# EAGLE library part XC3SD3400ACS484 (library xilinx_spartan3_virtex4_and_5)
Xilinx FPGA
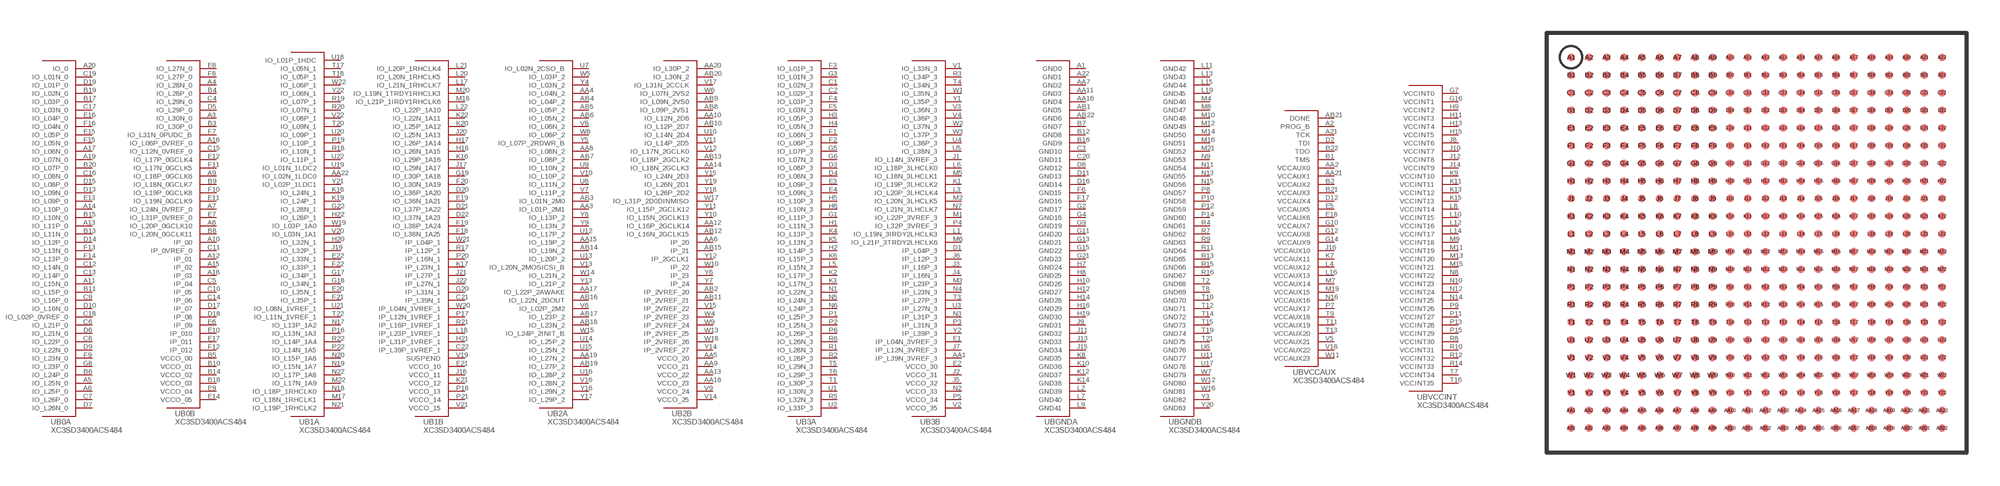
[diagram p41: symbol with the pads of CS484; footprint CS484]

Designator prefix U; gates B0A=XC3SD3400ACS484_0A B0B=XC3SD3400ACS484_0B B1A=XC3SD3400ACS484_1A B1B=XC3SD3400ACS484_1B B2A=XC3SD3400ACS484_2A B2B=XC3SD3400ACS484_2B B3A=XC3SD3400ACS484_3A B3B=XC3SD3400ACS484_3B BGNDA=XC3SD3400ACS484_GNDA BGNDB=XC3SD3400ACS484_GNDB BVCCAUX=XC3SD3400ACS484_VCCAUX BVCCINT=XC3SD3400ACS484_VCCINT

## XC3SD3400ACS484  [CS484]
A1  BGNDA:GND0  pas
A2  BVCCAUX:PROG_B
A3  B0B:IO_L30N_0
A4  B0B:IO_L28N_0
A5  B0A:IO_L25N_0
A6  B0A:IO_L25P_0
A7  B0B:IO_L24N_0VREF_0
A8  B0B:IO_L20P_0GCLK10
A9  B0B:IO_L18P_0GCLK6
A10  B0B:IP_00
A11  B0A:IO_L15N_0
A12  B0B:IP_01
A13  B0A:IO_L11P_0
A14  B0A:IO_L10P_0
A15  B0B:IP_02
A16  B0B:IO_L06P_0VREF_0
A17  B0A:IO_L06N_0
A18  B0B:IP_03
A19  B0A:IO_L07N_0
A20  B0A:IO_0
A21  BVCCAUX:TCK
A22  BGNDA:GND1  pas
AA1  B3B:IP_L39N_3VREF_3
AA2  BVCCAUX:VCCAUX0  pas
AA3  B2A:IO_L01P_2M1
AA4  B2A:IO_L04N_2
AA5  B2B:VCCO_20  pas
AA6  B2B:IP_20
AA7  BGNDA:GND2  pas
AA8  B2A:IO_L08N_2
AA9  B2B:VCCO_21  pas
AA10  B2B:IO_L12N_2D6
AA11  BGNDA:GND3  pas
AA12  B2B:IO_L16P_2GCLK14
AA13  B2B:VCCO_22  pas
AA14  B2B:IO_L18N_2GCLK3
AA15  B2A:IO_L19P_2
AA16  BGNDA:GND4  pas
AA17  B2A:IO_L22P_2AWAKE
AA18  B2B:VCCO_23  pas
AA19  B2A:IO_L27N_2
AA20  B2B:IO_L30P_2
AA21  BVCCAUX:VCCAUX1  pas
AA22  B1A:IO_L02N_1LDC0
AB1  BGNDA:GND5  pas
AB2  B2B:IP_2VREF_20
AB3  B2A:IO_L01N_2M0
AB4  B2A:IO_L04P_2
AB5  B2A:IO_L05P_2
AB6  B2A:IO_L05N_2
AB7  B2A:IO_L08P_2
AB8  B2B:IO_L09P_2VS1
AB9  B2B:IO_L09N_2VS0
AB10  B2B:IO_L12P_2D7
AB11  B2B:IP_2VREF_21
AB12  B2B:IO_L16N_2GCLK15
AB13  B2B:IO_L18P_2GCLK2
AB14  B2A:IO_L19N_2
AB15  B2B:IP_21
AB16  B2A:IO_L22N_2DOUT
AB17  B2A:IO_L23P_2
AB18  B2A:IO_L23N_2
AB19  B2A:IO_L27P_2
AB20  B2B:IO_L30N_2
AB21  BVCCAUX:DONE
AB22  BGNDA:GND6  pas
B1  BVCCAUX:TMS
B2  BVCCAUX:VCCAUX2  pas
B3  B0B:IO_L30P_0
B4  B0B:IO_L28P_0
B5  B0B:VCCO_00  pas
B6  B0A:IO_L24P_0
B7  BGNDA:GND7  pas
B8  B0B:IO_L20N_0GCLK11
B9  B0B:IO_L18N_0GCLK7
B10  B0B:VCCO_01  pas
B11  B0A:IO_L15P_0
B12  BGNDA:GND8  pas
B13  B0A:IO_L11N_0
B14  B0B:VCCO_02  pas
B15  B0A:IO_L10N_0
B16  BGNDA:GND9  pas
B17  B0A:IO_L03P_0
B18  B0B:VCCO_03  pas
B19  B0A:IO_L02N_0
B20  B0A:IO_L07P_0
B21  BVCCAUX:VCCAUX3  pas
B22  BVCCAUX:TDO
C1  B3A:IO_L02N_3
C2  B3A:IO_L02P_3
C3  BGNDA:GND10  pas
C4  B0B:IO_L29N_0
C5  B0B:IP_04
C6  B0A:IO_L21P_0
C7  B0A:IO_L26P_0
C8  B0A:IO_L22P_0
C9  B0A:IO_L16P_0
C10  B0B:IP_05
C11  B0B:IP_0VREF_0
C12  B0A:IO_L14N_0
C13  B0A:IO_L14P_0
C14  B0B:IP_06
C15  B0B:IO_L12N_0VREF_0
C16  B0A:IO_L08N_0
C17  B0A:IO_L03N_0
C18  B0A:IO_L02P_0VREF_0
C19  B0A:IO_L01N_0
C20  BGNDA:GND11  pas
C21  B1B:IP_L39N_1
C22  B1B:IP_L39P_1VREF_1
D1  B3B:IP_L04P_3
D2  BVCCAUX:TDI
D3  B3A:IO_L08P_3
D4  B3A:IO_L08N_3
D5  B0B:IO_L29P_0
D6  B0A:IO_L21N_0
D7  B0A:IO_L26N_0
D8  BGNDA:GND12  pas
D9  B0A:IO_L22N_0
D10  B0A:IO_L16N_0
D11  BGNDA:GND13  pas
D12  BVCCAUX:VCCAUX4  pas
D13  B0A:IO_L09N_0
D14  B0A:IO_L12P_0
D15  B0A:IO_L08P_0
D16  BGNDA:GND14  pas
D17  B0B:IP_07
D18  B0B:IP_08
D19  B0A:IO_L01P_0
D20  B1B:IO_L36P_1A20
D21  B1B:IO_L37P_1A22
D22  B1B:IO_L37N_1A23
E1  B3B:IP_L04N_3VREF_3
E2  B3B:VCCO_30  pas
E3  B3A:IO_L09P_3
E4  B3A:IO_L09N_3
E5  BVCCAUX:VCCAUX5  pas
E6  B0B:IP_09
E7  B0B:IO_L31P_0VREF_0
E8  B0B:IO_L27N_0
E9  B0B:VCCO_04  pas
E10  B0B:IP_010
E11  B0B:IO_L19N_0GCLK9
E12  B0B:IO_L17P_0GCLK4
E13  B0A:IO_L09P_0
E14  B0B:VCCO_05  pas
E15  B0A:IO_L05P_0
E16  B0A:IO_L04P_0
E17  B0B:IP_011
E18  BVCCAUX:VCCAUX6  pas
E19  B1B:IO_L36N_1A21
E20  B1A:IO_L35N_1
E21  B1B:VCCO_10  pas
E22  B1A:IO_L33N_1
F1  B3A:IO_L06N_3
F2  B3A:IO_L06P_3
F3  B3A:IO_L01P_3
F4  B3A:IO_L03P_3
F5  B3A:IO_L03N_3
F6  BGNDA:GND15  pas
F7  B0B:IO_L31N_0PUDC_B
F8  B0B:IO_L27P_0
F9  B0A:IO_L23N_0
F10  B0B:IO_L19P_0GCLK8
F11  B0B:IO_L17N_0GCLK5
F12  B0B:IP_012
F13  B0A:IO_L13N_0
F14  B0A:IO_L13P_0
F15  B0A:IO_L05N_0
F16  B0A:IO_L04N_0
F17  BGNDA:GND16  pas
F18  B1B:IO_L38N_1A25
F19  B1B:IO_L38P_1A24
F20  B1B:IO_L30N_1A19
F21  B1A:IO_L35P_1
F22  B1A:IO_L33P_1
G1  B3A:IO_L11P_3
G2  BGNDA:GND17  pas
G3  B3A:IO_L01N_3
G4  BGNDA:GND18  pas
G5  B3A:IO_L07P_3
G6  B3A:IO_L07N_3
G7  BVCCINT:VCCINT0  pas
G8  B0A:IO_L23P_0
G9  BGNDA:GND19  pas
G10  BVCCAUX:VCCAUX7  pas
G11  BGNDA:GND20  pas
G12  BVCCAUX:VCCAUX8  pas
G13  BGNDA:GND21  pas
G14  BVCCAUX:VCCAUX9  pas
G15  BGNDA:GND22  pas
G16  BVCCINT:VCCINT1  pas
G17  B1A:IO_L34P_1
G18  B1A:IO_L34N_1
G19  B1B:IO_L30P_1A18
G20  B1B:IP_L31N_1
G21  BGNDA:GND23  pas
G22  B1A:IO_L28N_1
H1  B3A:IO_L11N_3
H2  B3A:IO_L14P_3
H3  B3A:IO_L05P_3
H4  B3A:IO_L05N_3
H5  B3A:IO_L10P_3
H6  B3A:IO_L10N_3
H7  BGNDA:GND24  pas
H8  BGNDA:GND25  pas
H9  BVCCINT:VCCINT2  pas
H10  BGNDA:GND26  pas
H11  BVCCINT:VCCINT3  pas
H12  BGNDA:GND27  pas
H13  BVCCINT:VCCINT4  pas
H14  BGNDA:GND28  pas
H15  BVCCINT:VCCINT5  pas
H16  BGNDA:GND29  pas
H17  B1B:IO_L26P_1A14
H18  B1B:IO_L26N_1A15
H19  BGNDA:GND30  pas
H20  B1A:IO_L32N_1
H21  B1B:IP_L31P_1VREF_1
H22  B1A:IO_L28P_1
J1  B3B:IO_L14N_3VREF_3
J2  B3B:VCCO_31  pas
J3  B3B:IP_L16P_3
J4  B3B:IP_L16N_3
J5  B3B:VCCO_32  pas
J6  B3B:IP_L12P_3
J7  B3B:IP_L12N_3VREF_3
J8  BVCCINT:VCCINT6  pas
J9  BGNDA:GND31  pas
J10  BVCCINT:VCCINT7  pas
J11  BGNDA:GND32  pas
J12  BVCCINT:VCCINT8  pas
J13  BGNDA:GND33  pas
J14  BVCCINT:VCCINT9  pas
J15  BGNDA:GND34  pas
J16  BVCCAUX:VCCAUX10  pas
J17  B1B:IO_L29N_1A17
J18  B1B:VCCO_11  pas
J19  B1A:IO_L32P_1
J20  B1B:IO_L25N_1A13
J21  B1B:IP_L27P_1
J22  B1B:IP_L27N_1
K1  B3B:IO_L19P_3LHCLK2
K2  B3A:IO_L17P_3
K3  B3A:IO_L17N_3
K4  B3A:IO_L13P_3
K5  B3A:IO_L13N_3
K6  B3A:IO_L15P_3
K7  BVCCAUX:VCCAUX11  pas
K8  BGNDA:GND35  pas
K9  BVCCINT:VCCINT10  pas
K10  BGNDA:GND36  pas
K11  BVCCINT:VCCINT11  pas
K12  BGNDA:GND37  pas
K13  BVCCINT:VCCINT12  pas
K14  BGNDA:GND38  pas
K15  BVCCINT:VCCINT13  pas
K16  B1B:IO_L29P_1A16
K17  B1B:IP_L23N_1
K18  B1A:IO_L24N_1
K19  B1A:IO_L24P_1
K20  B1B:IO_L25P_1A12
K21  B1B:VCCO_12  pas
K22  B1B:IO_L22N_1A11
L1  B3B:IO_L19N_3IRDY2LHCLK3
L2  BGNDA:GND39  pas
L3  B3B:IO_L20P_3LHCLK4
L4  BVCCAUX:VCCAUX12  pas
L5  B3A:IO_L15N_3
L6  B3B:IO_L18P_3LHCLK0
L7  BGNDA:GND40  pas
L8  BVCCINT:VCCINT14  pas
L9  BGNDA:GND41  pas
L10  BVCCINT:VCCINT15  pas
L11  BGNDB:GND42  pas
L12  BVCCINT:VCCINT16  pas
L13  BGNDB:GND43  pas
L14  BVCCINT:VCCINT17  pas
L15  BGNDB:GND44  pas
L16  BVCCAUX:VCCAUX13  pas
L17  B1B:IO_L21N_1RHCLK7
L18  B1B:IP_L23P_1VREF_1
L19  BGNDB:GND45  pas
L20  B1B:IO_L20N_1RHCLK5
L21  B1B:IO_L20P_1RHCLK4
L22  B1B:IO_L22P_1A10
M1  B3B:IO_L22P_3VREF_3
M2  B3B:IO_L20N_3LHCLK5
M3  B3B:IP_L23P_3
M4  BGNDB:GND46  pas
M5  B3B:IO_L18N_3LHCLK1
M6  B3B:IO_L21P_3TRDY2LHCLK6
M7  BVCCAUX:VCCAUX14  pas
M8  BGNDB:GND47  pas
M9  BVCCINT:VCCINT18  pas
M10  BGNDB:GND48  pas
M11  BVCCINT:VCCINT19  pas
M12  BGNDB:GND49  pas
M13  BVCCINT:VCCINT20  pas
M14  BGNDB:GND50  pas
M15  BVCCINT:VCCINT21  pas
M16  BGNDB:GND51  pas
M17  B1A:IO_L18N_1RHCLK1
M18  B1B:IO_L21P_1IRDY1RHCLK6
M19  BVCCAUX:VCCAUX15  pas
M20  B1B:IO_L19N_1TRDY1RHCLK3
M21  BGNDB:GND52  pas
M22  B1A:IO_L17N_1A9
N1  B3A:IO_L22N_3
N2  B3B:VCCO_33  pas
N3  B3B:IP_L31P_3
N4  B3B:IP_L23N_3
N5  B3A:IO_L24N_3
N6  B3A:IO_L24P_3
N7  B3B:IO_L21N_3LHCLK7
N8  BVCCINT:VCCINT22  pas
N9  BGNDB:GND53  pas
N10  BVCCINT:VCCINT23  pas
N11  BGNDB:GND54  pas
N12  BVCCINT:VCCINT24  pas
N13  BGNDB:GND55  pas
N14  BVCCINT:VCCINT25  pas
N15  BGNDB:GND56  pas
N16  BVCCAUX:VCCAUX16  pas
N17  B1A:IO_L13P_1A2
N18  B1A:IO_L18P_1RHCLK0
N19  B1A:IO_L15N_1A7
N20  B1A:IO_L15P_1A6
N21  B1A:IO_L19P_1RHCLK2
N22  B1A:IO_L17P_1A8
P1  B3A:IO_L25P_3
P2  B3A:IO_L25N_3
P3  B3B:IP_L31N_3
P4  B3B:IO_L32P_3VREF_3
P5  B3B:VCCO_34  pas
P6  B3A:IO_L26P_3
P7  BVCCAUX:VCCAUX17  pas
P8  BGNDB:GND57  pas
P9  BVCCINT:VCCINT26  pas
P10  BGNDB:GND58  pas
P11  BVCCINT:VCCINT27  pas
P12  BGNDB:GND59  pas
P13  BVCCINT:VCCINT28  pas
P14  BGNDB:GND60  pas
P15  BVCCINT:VCCINT29  pas
P16  B1A:IO_L13N_1A3
P17  B1B:IP_L12N_1VREF_1
P18  B1B:VCCO_13  pas
P19  B1A:IO_L10P_1
P20  B1B:IP_L16N_1
P21  B1B:VCCO_14  pas
P22  B1A:IO_L14N_1A5
R1  B3A:IO_L28N_3
R2  B3A:IO_L28P_3
R3  B3B:IO_L34P_3
R4  BGNDB:GND61  pas
R5  B3A:IO_L32N_3
R6  B3A:IO_L26N_3
R7  BGNDB:GND62  pas
R8  BVCCINT:VCCINT30  pas
R9  BGNDB:GND63  pas
R10  BVCCINT:VCCINT31  pas
R11  BGNDB:GND64  pas
R12  BVCCINT:VCCINT32  pas
R13  BGNDB:GND65  pas
R14  BVCCINT:VCCINT33  pas
R15  BGNDB:GND66  pas
R16  BGNDB:GND67  pas
R17  B1B:IP_L12P_1
R18  B1A:IO_L10N_1
R19  B1A:IO_L07P_1
R20  B1A:IO_L07N_1
R21  B1B:IP_L16P_1VREF_1
R22  B1A:IO_L14P_1A4
T1  B3A:IO_L30P_3
T2  BGNDB:GND68  pas
T3  B3B:IP_L27P_3
T4  B3B:IO_L34N_3
T5  B3A:IO_L29N_3
T6  B3A:IO_L29P_3
T7  BVCCINT:VCCINT34  pas
T8  BGNDB:GND69  pas
T9  BVCCAUX:VCCAUX18  pas
T10  BGNDB:GND70  pas
T11  BVCCAUX:VCCAUX19  pas
T12  BGNDB:GND71  pas
T13  BVCCAUX:VCCAUX20  pas
T14  BGNDB:GND72  pas
T15  BGNDB:GND73  pas
T16  BVCCINT:VCCINT35  pas
T17  B1A:IO_L05N_1
T18  B1A:IO_L05P_1
T19  BGNDB:GND74  pas
T20  B1A:IO_L09N_1
T21  BGNDB:GND75  pas
T22  B1A:IO_L11N_1VREF_1
U1  B3A:IO_L30N_3
U2  B3A:IO_L33P_3
U3  B3B:IP_L27N_3
U4  B3B:IO_L38P_3
U5  B3B:IO_L38N_3
U6  BGNDB:GND76  pas
U7  B2A:IO_L02N_2CSO_B
U8  B2A:IO_L11N_2
U9  B2A:IO_L10N_2
U10  B2B:IO_L14N_2D4
U11  BGNDB:GND77  pas
U12  B2A:IO_L17P_2
U13  B2A:IO_L20P_2
U14  B2A:IO_L25P_2
U15  B2A:IO_L25N_2
U16  B2A:IO_L28P_2
U17  BGNDB:GND78  pas
U18  B1A:IO_L01P_1HDC
U19  B1A:IO_L01N_1LDC2
U20  B1A:IO_L09P_1
U21  B1A:IO_L08N_1VREF_1
U22  B1A:IO_L11P_1
V1  B3B:IO_L33N_3
V2  B3B:VCCO_35  pas
V3  B3B:IO_L36N_3
V4  B3B:IO_L36P_3
V5  BVCCAUX:VCCAUX21  pas
V6  B2A:IO_L02P_2M2
V7  B2A:IO_L11P_2
V8  B2A:IO_L06N_2
V9  B2B:VCCO_24  pas
V10  B2A:IO_L10P_2
V11  B2B:IO_L14P_2D5
V12  B2B:IO_L17N_2GCLK0
V13  B2A:IO_L20N_2MOSICSI_B
V14  B2B:VCCO_25  pas
V15  B2B:IP_2VREF_22
V16  B2A:IO_L28N_2
V17  B2B:IO_L31N_2CCLK
V18  BVCCAUX:VCCAUX22  pas
V19  B1B:SUSPEND
V20  B1A:IO_L03N_1A1
V21  B1B:VCCO_15  pas
V22  B1A:IO_L08P_1
W1  B3B:IO_L35N_3
W2  B3B:IO_L37N_3
W3  B3B:IO_L37P_3
W4  B2B:IP_2VREF_23
W5  B2A:IO_L03P_2
W6  B2B:IO_L07N_2VS2
W7  BGNDB:GND79  pas
W8  B2A:IO_L06P_2
W9  B2B:IP_2VREF_24
W10  B2B:IP_22
W11  BVCCAUX:VCCAUX23  pas
W12  BGNDB:GND80  pas
W13  B2B:IP_2VREF_25
W14  B2A:IO_L21N_2
W15  B2A:IO_L24P_2INIT_B
W16  BGNDB:GND81  pas
W17  B2B:IO_L31P_2D0DINMISO
W18  B2B:IP_2VREF_26
W19  B1A:IO_L03P_1A0
W20  B1B:IP_L04N_1VREF_1
W21  B1B:IP_L04P_1
W22  B1A:IO_L06P_1
Y1  B3B:IO_L35P_3
Y2  B3B:IP_L39P_3
Y3  BGNDB:GND82  pas
Y4  B2A:IO_L03N_2
Y5  B2A:IO_L07P_2RDWR_B
Y6  B2B:IP_23
Y7  B2B:IP_24
Y8  B2A:IO_L13P_2
Y9  B2A:IO_L13N_2
Y10  B2B:IO_L15N_2GCLK13
Y11  B2B:IO_L15P_2GCLK12
Y12  B2B:IP_2GCLK1
Y13  B2A:IO_L21P_2
Y14  B2B:IP_2VREF_27
Y15  B2B:IO_L24N_2D3
Y16  B2A:IO_L29N_2
Y17  B2A:IO_L29P_2
Y18  B2B:IO_L26P_2D2
Y19  B2B:IO_L26N_2D1
Y20  BGNDB:GND83  pas
Y21  B1A:IO_L02P_1LDC1
Y22  B1A:IO_L06N_1

## Footprint CS484 (pad centres in mm)
smd 0.33 x 0.33: A1 -8.4,8.4; A2 -7.6,8.4; A3 -6.8,8.4; A4 -6,8.4; A5 -5.2,8.4; A6 -4.4,8.4; A7 -3.6,8.4; A8 -2.8,8.4; A9 -2,8.4; A10 -1.2,8.4; A11 -0.4,8.4; A12 0.4,8.4; A13 1.2,8.4; A14 2,8.4; A15 2.8,8.4; A16 3.6,8.4; A17 4.4,8.4; A18 5.2,8.4; A19 6,8.4; A20 6.8,8.4; A21 7.6,8.4; A22 8.4,8.4; AA1 -8.4,-7.6; AA2 -7.6,-7.6; AA3 -6.8,-7.6; AA4 -6,-7.6; AA5 -5.2,-7.6; AA6 -4.4,-7.6; AA7 -3.6,-7.6; AA8 -2.8,-7.6; AA9 -2,-7.6; AA10 -1.2,-7.6; AA11 -0.4,-7.6; AA12 0.4,-7.6; AA13 1.2,-7.6; AA14 2,-7.6; AA15 2.8,-7.6; AA16 3.6,-7.6; AA17 4.4,-7.6; AA18 5.2,-7.6; AA19 6,-7.6; AA20 6.8,-7.6; AA21 7.6,-7.6; AA22 8.4,-7.6; AB1 -8.4,-8.4; AB2 -7.6,-8.4; AB3 -6.8,-8.4; AB4 -6,-8.4; AB5 -5.2,-8.4; AB6 -4.4,-8.4; AB7 -3.6,-8.4; AB8 -2.8,-8.4; AB9 -2,-8.4; AB10 -1.2,-8.4; AB11 -0.4,-8.4; AB12 0.4,-8.4; AB13 1.2,-8.4; AB14 2,-8.4; AB15 2.8,-8.4; AB16 3.6,-8.4; AB17 4.4,-8.4; AB18 5.2,-8.4; AB19 6,-8.4; AB20 6.8,-8.4; AB21 7.6,-8.4; AB22 8.4,-8.4; B1 -8.4,7.6; B2 -7.6,7.6; B3 -6.8,7.6; B4 -6,7.6; B5 -5.2,7.6; B6 -4.4,7.6; B7 -3.6,7.6; B8 -2.8,7.6; B9 -2,7.6; B10 -1.2,7.6; B11 -0.4,7.6; B12 0.4,7.6; B13 1.2,7.6; B14 2,7.6; B15 2.8,7.6; B16 3.6,7.6; B17 4.4,7.6; B18 5.2,7.6; B19 6,7.6; B20 6.8,7.6; B21 7.6,7.6; B22 8.4,7.6; C1 -8.4,6.8; C2 -7.6,6.8; C3 -6.8,6.8; C4 -6,6.8; C5 -5.2,6.8; C6 -4.4,6.8; C7 -3.6,6.8; C8 -2.8,6.8; C9 -2,6.8; C10 -1.2,6.8; C11 -0.4,6.8; C12 0.4,6.8; C13 1.2,6.8; C14 2,6.8; C15 2.8,6.8; C16 3.6,6.8; C17 4.4,6.8; C18 5.2,6.8; C19 6,6.8; C20 6.8,6.8; C21 7.6,6.8; C22 8.4,6.8; D1 -8.4,6; D2 -7.6,6; D3 -6.8,6; D4 -6,6; D5 -5.2,6; D6 -4.4,6; D7 -3.6,6; D8 -2.8,6; D9 -2,6; D10 -1.2,6; D11 -0.4,6; D12 0.4,6; D13 1.2,6; D14 2,6; D15 2.8,6; D16 3.6,6; D17 4.4,6; D18 5.2,6; D19 6,6; D20 6.8,6; D21 7.6,6; D22 8.4,6; E1 -8.4,5.2; E2 -7.6,5.2; E3 -6.8,5.2; E4 -6,5.2; E5 -5.2,5.2; E6 -4.4,5.2; E7 -3.6,5.2; E8 -2.8,5.2; E9 -2,5.2; E10 -1.2,5.2; E11 -0.4,5.2; E12 0.4,5.2; E13 1.2,5.2; E14 2,5.2; E15 2.8,5.2; E16 3.6,5.2; E17 4.4,5.2; E18 5.2,5.2; E19 6,5.2; E20 6.8,5.2; E21 7.6,5.2; E22 8.4,5.2; F1 -8.4,4.4; F2 -7.6,4.4; F3 -6.8,4.4; F4 -6,4.4; F5 -5.2,4.4; F6 -4.4,4.4; F7 -3.6,4.4; F8 -2.8,4.4; F9 -2,4.4; F10 -1.2,4.4; F11 -0.4,4.4; F12 0.4,4.4; F13 1.2,4.4; F14 2,4.4; F15 2.8,4.4; F16 3.6,4.4; F17 4.4,4.4; F18 5.2,4.4; F19 6,4.4; F20 6.8,4.4; F21 7.6,4.4; F22 8.4,4.4; G1 -8.4,3.6; G2 -7.6,3.6; G3 -6.8,3.6; G4 -6,3.6; G5 -5.2,3.6; G6 -4.4,3.6; G7 -3.6,3.6; G8 -2.8,3.6; G9 -2,3.6; G10 -1.2,3.6; G11 -0.4,3.6; G12 0.4,3.6; G13 1.2,3.6; G14 2,3.6; G15 2.8,3.6; G16 3.6,3.6; G17 4.4,3.6; G18 5.2,3.6; G19 6,3.6; G20 6.8,3.6; G21 7.6,3.6; G22 8.4,3.6; H1 -8.4,2.8; H2 -7.6,2.8; H3 -6.8,2.8; H4 -6,2.8; H5 -5.2,2.8; H6 -4.4,2.8; H7 -3.6,2.8; H8 -2.8,2.8; H9 -2,2.8; H10 -1.2,2.8; H11 -0.4,2.8; H12 0.4,2.8; H13 1.2,2.8; H14 2,2.8; H15 2.8,2.8; H16 3.6,2.8; H17 4.4,2.8; H18 5.2,2.8; H19 6,2.8; H20 6.8,2.8; H21 7.6,2.8; H22 8.4,2.8; J1 -8.4,2; J2 -7.6,2; J3 -6.8,2; J4 -6,2; J5 -5.2,2; J6 -4.4,2; J7 -3.6,2; J8 -2.8,2; J9 -2,2; J10 -1.2,2; J11 -0.4,2; J12 0.4,2; J13 1.2,2; J14 2,2; J15 2.8,2; J16 3.6,2; J17 4.4,2; J18 5.2,2; J19 6,2; J20 6.8,2; J21 7.6,2; J22 8.4,2; K1 -8.4,1.2; K2 -7.6,1.2; K3 -6.8,1.2; K4 -6,1.2; K5 -5.2,1.2; K6 -4.4,1.2; K7 -3.6,1.2; K8 -2.8,1.2; K9 -2,1.2; K10 -1.2,1.2; K11 -0.4,1.2; K12 0.4,1.2; K13 1.2,1.2; K14 2,1.2; K15 2.8,1.2; K16 3.6,1.2; K17 4.4,1.2; K18 5.2,1.2; K19 6,1.2; K20 6.8,1.2; K21 7.6,1.2; K22 8.4,1.2; L1 -8.4,0.4; L2 -7.6,0.4; L3 -6.8,0.4; L4 -6,0.4; L5 -5.2,0.4; L6 -4.4,0.4; L7 -3.6,0.4; L8 -2.8,0.4; L9 -2,0.4; L10 -1.2,0.4; L11 -0.4,0.4; L12 0.4,0.4; L13 1.2,0.4; L14 2,0.4; L15 2.8,0.4; L16 3.6,0.4; L17 4.4,0.4; L18 5.2,0.4; L19 6,0.4; L20 6.8,0.4; L21 7.6,0.4; L22 8.4,0.4; M1 -8.4,-0.4; M2 -7.6,-0.4; M3 -6.8,-0.4; M4 -6,-0.4; M5 -5.2,-0.4; M6 -4.4,-0.4; M7 -3.6,-0.4; M8 -2.8,-0.4; M9 -2,-0.4; M10 -1.2,-0.4; M11 -0.4,-0.4; M12 0.4,-0.4; M13 1.2,-0.4; M14 2,-0.4; M15 2.8,-0.4; M16 3.6,-0.4; M17 4.4,-0.4; M18 5.2,-0.4; M19 6,-0.4; M20 6.8,-0.4; M21 7.6,-0.4; M22 8.4,-0.4; N1 -8.4,-1.2; N2 -7.6,-1.2; N3 -6.8,-1.2; N4 -6,-1.2; N5 -5.2,-1.2; N6 -4.4,-1.2; N7 -3.6,-1.2; N8 -2.8,-1.2; N9 -2,-1.2; N10 -1.2,-1.2; N11 -0.4,-1.2; N12 0.4,-1.2; N13 1.2,-1.2; N14 2,-1.2; N15 2.8,-1.2; N16 3.6,-1.2; N17 4.4,-1.2; N18 5.2,-1.2; N19 6,-1.2; N20 6.8,-1.2; N21 7.6,-1.2; N22 8.4,-1.2; P1 -8.4,-2; P2 -7.6,-2; P3 -6.8,-2; P4 -6,-2; P5 -5.2,-2; P6 -4.4,-2; P7 -3.6,-2; P8 -2.8,-2; P9 -2,-2; P10 -1.2,-2; P11 -0.4,-2; P12 0.4,-2; P13 1.2,-2; P14 2,-2; P15 2.8,-2; P16 3.6,-2; P17 4.4,-2; P18 5.2,-2; P19 6,-2; P20 6.8,-2; P21 7.6,-2; P22 8.4,-2; R1 -8.4,-2.8; R2 -7.6,-2.8; R3 -6.8,-2.8; R4 -6,-2.8; R5 -5.2,-2.8; R6 -4.4,-2.8; R7 -3.6,-2.8; R8 -2.8,-2.8; R9 -2,-2.8; R10 -1.2,-2.8; R11 -0.4,-2.8; R12 0.4,-2.8; R13 1.2,-2.8; R14 2,-2.8; R15 2.8,-2.8; R16 3.6,-2.8; R17 4.4,-2.8; R18 5.2,-2.8; R19 6,-2.8; R20 6.8,-2.8; R21 7.6,-2.8; R22 8.4,-2.8; T1 -8.4,-3.6; T2 -7.6,-3.6; T3 -6.8,-3.6; T4 -6,-3.6; T5 -5.2,-3.6; T6 -4.4,-3.6; T7 -3.6,-3.6; T8 -2.8,-3.6; T9 -2,-3.6; T10 -1.2,-3.6; T11 -0.4,-3.6; T12 0.4,-3.6; T13 1.2,-3.6; T14 2,-3.6; T15 2.8,-3.6; T16 3.6,-3.6; T17 4.4,-3.6; T18 5.2,-3.6; T19 6,-3.6; T20 6.8,-3.6; T21 7.6,-3.6; T22 8.4,-3.6; U1 -8.4,-4.4; U2 -7.6,-4.4; U3 -6.8,-4.4; U4 -6,-4.4; U5 -5.2,-4.4; U6 -4.4,-4.4; U7 -3.6,-4.4; U8 -2.8,-4.4; U9 -2,-4.4; U10 -1.2,-4.4; U11 -0.4,-4.4; U12 0.4,-4.4; U13 1.2,-4.4; U14 2,-4.4; U15 2.8,-4.4; U16 3.6,-4.4; U17 4.4,-4.4; U18 5.2,-4.4; U19 6,-4.4; U20 6.8,-4.4; U21 7.6,-4.4; U22 8.4,-4.4; V1 -8.4,-5.2; V2 -7.6,-5.2; V3 -6.8,-5.2; V4 -6,-5.2; V5 -5.2,-5.2; V6 -4.4,-5.2; V7 -3.6,-5.2; V8 -2.8,-5.2; V9 -2,-5.2; V10 -1.2,-5.2; V11 -0.4,-5.2; V12 0.4,-5.2; V13 1.2,-5.2; V14 2,-5.2; V15 2.8,-5.2; V16 3.6,-5.2; V17 4.4,-5.2; V18 5.2,-5.2; V19 6,-5.2; V20 6.8,-5.2; V21 7.6,-5.2; V22 8.4,-5.2; W1 -8.4,-6; W2 -7.6,-6; W3 -6.8,-6; W4 -6,-6; W5 -5.2,-6; W6 -4.4,-6; W7 -3.6,-6; W8 -2.8,-6; W9 -2,-6; W10 -1.2,-6; W11 -0.4,-6; W12 0.4,-6; W13 1.2,-6; W14 2,-6; W15 2.8,-6; W16 3.6,-6; W17 4.4,-6; W18 5.2,-6; W19 6,-6; W20 6.8,-6; W21 7.6,-6; W22 8.4,-6; Y1 -8.4,-6.8; Y2 -7.6,-6.8; Y3 -6.8,-6.8; Y4 -6,-6.8; Y5 -5.2,-6.8; Y6 -4.4,-6.8; Y7 -3.6,-6.8; Y8 -2.8,-6.8; Y9 -2,-6.8; Y10 -1.2,-6.8; Y11 -0.4,-6.8; Y12 0.4,-6.8; Y13 1.2,-6.8; Y14 2,-6.8; Y15 2.8,-6.8; Y16 3.6,-6.8; Y17 4.4,-6.8; Y18 5.2,-6.8; Y19 6,-6.8; Y20 6.8,-6.8; Y21 7.6,-6.8; Y22 8.4,-6.8